# Altium footprint library DCT.PcbLib: 1 footprints
Each footprint in its own frame and in the unit in brackets; x right, y up, seen from the top. Pads: shape width x height; smd on the part's side, far side on the other; paste and mask are expansions set on the pad; w line width, h text height; cw(c..) or ccw(c..) is an arc to the next point about the centre after c.
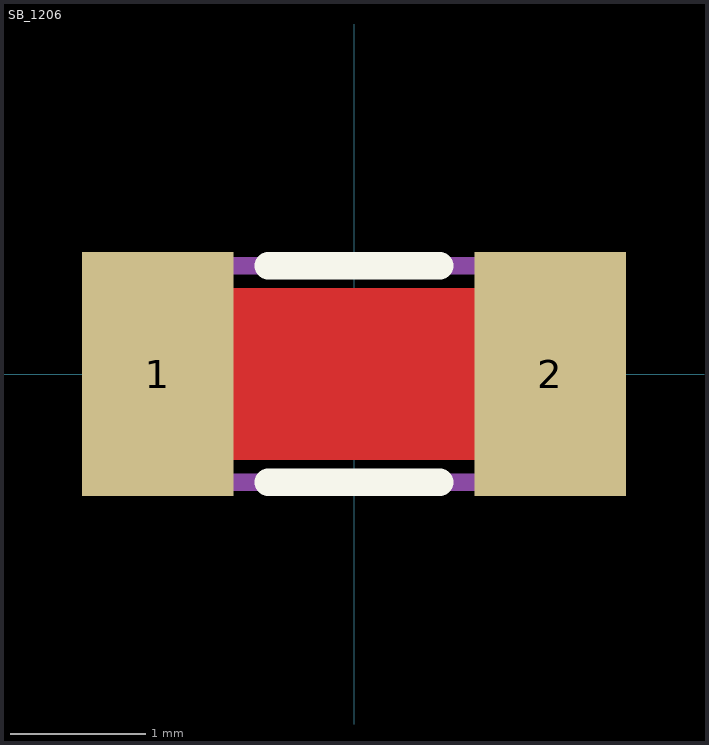
[diagram p0: the footprint, top view; thin cyan lines are the x and y axes]

## SB_1206 [mil]
pads (2):
  rect 44x71 smd mask+3: 1(-57.09,0) 2(57.09,0)
Top Layer:
  rectangle: -62.99,-25 62.99,25
Top Overlay:
  lines w8: -25,-31.5 25,-31.5 ; -25,31.49 25,31.49
Mechanical 1:
  text ".Designator" at 0,0 h40
Mechanical 15:
  lines w5: -62.99,-31.5 62.99,-31.5 62.99,31.5 -62.99,31.5 -62.99,-31.5